# EAGLE library part SSW-108-02-G-S (library RFM1262)
THROUGH-HOLE .025" SQ POST SOCKET Source: Samtec SSW.pdf
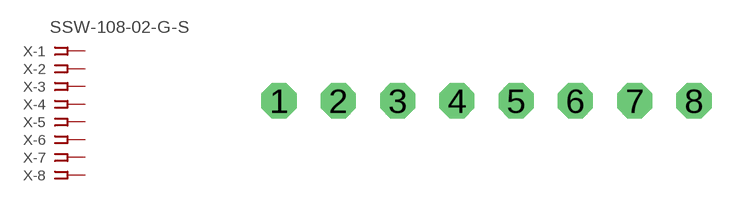
[diagram p0: symbol with the pads of SSW-108-02-G-S; footprint SSW-108-02-G-S]

Designator prefix X; gates -1=FPINV -2=FPIN -3=FPIN -4=FPIN -5=FPIN -6=FPIN -7=FPIN -8=FPIN

## SSW-108-02-G-S (MF: Samtec Inc.; MPN: SSW-108-02-G-S-RA; OC_FARNELL: unknown; OC_NEWARK: 11P9449)  [SSW-108-02-G-S]
1  -1:1  pas
2  -2:1  pas
3  -3:1  pas
4  -4:1  pas
5  -5:1  pas
6  -6:1  pas
7  -7:1  pas
8  -8:1  pas

## Footprint SSW-108-02-G-S (pad centres in mm)
THROUGH-HOLE .025" SQ POST SOCKET Source: Samtec SSW.pdf
drill 1 pad 1.5 octagon: 1 -8.89,0; 2 -6.35,0; 3 -3.81,0; 4 -1.27,0; 5 1.27,0; 6 3.81,0; 7 6.35,0; 8 8.89,0